# EAGLE library part PIN-TOBEAGLEBONE (library TestingCape)
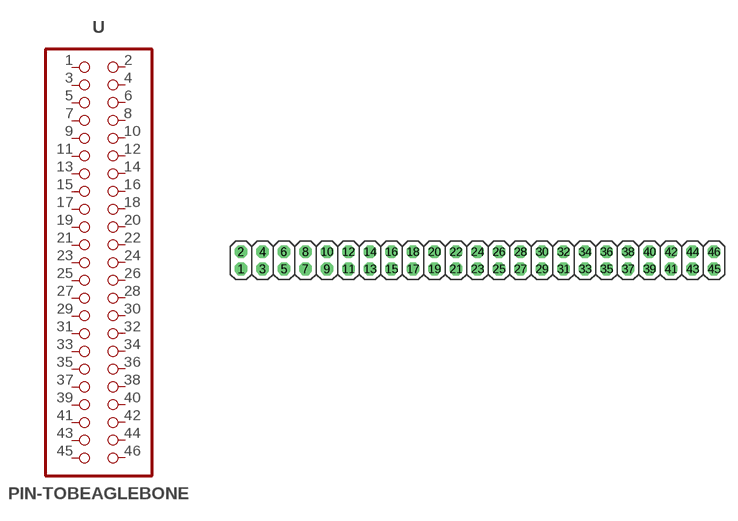
[diagram p0: symbol with the pads of 2X23; footprint 2X23]

Designator prefix -

## PIN-TOBEAGLEBONE  [2X23]
1  1  pas
2  2  pas
3  3  pas
4  4  pas
5  5  pas
6  6  pas
7  7  pas
8  8  pas
9  9  pas
10  10  pas
11  11  pas
12  12  pas
13  13  pas
14  14  pas
15  15  pas
16  16  pas
17  17  pas
18  18  pas
19  19  pas
20  20  pas
21  21  pas
22  22  pas
23  23  pas
24  24  pas
25  25  pas
26  26  pas
27  27  pas
28  28  pas
29  29  pas
30  30  pas
31  31  pas
32  32  pas
33  33  pas
34  34  pas
35  35  pas
36  36  pas
37  37  pas
38  38  pas
39  39  pas
40  40  pas
41  41  pas
42  42  pas
43  43  pas
44  44  pas
45  45  pas
46  46  pas

## Footprint 2X23 (pad centres in mm)
PIN HEADER
drill 1.016 octagon: 1 -27.94,-1.27; 2 -27.94,0.762; 3 -25.4,-1.27; 4 -25.4,0.762; 5 -22.86,-1.27; 6 -22.86,0.762; 7 -20.32,-1.27; 8 -20.32,0.762; 9 -17.78,-1.27; 10 -17.78,0.762; 11 -15.24,-1.27; 12 -15.24,0.762; 13 -12.7,-1.27; 14 -12.7,0.762; 15 -10.16,-1.27; 16 -10.16,0.762; 17 -7.62,-1.27; 18 -7.62,0.762; 19 -5.08,-1.27; 20 -5.08,0.762; 21 -2.54,-1.27; 22 -2.54,0.762; 23 0,-1.27; 24 0,0.762; 25 2.54,-1.27; 26 2.54,0.762; 27 5.08,-1.27; 28 5.08,0.762; 29 7.62,-1.27; 30 7.62,0.762; 31 10.16,-1.27; 32 10.16,0.762; 33 12.7,-1.27; 34 12.7,0.762; 35 15.24,-1.27; 36 15.24,0.762; 37 17.78,-1.27; 38 17.78,0.762; 39 20.32,-1.27; 40 20.32,0.762; 41 22.86,-1.27; 42 22.86,0.762; 43 25.4,-1.27; 44 25.4,0.762; 45 27.94,-1.27; 46 27.94,0.762